# Altium footprint library SamacSys.PcbLib: 9 footprints
Each footprint in its own frame and in the unit in brackets; x right, y up, seen from the top. Pads: shape width x height; smd on the part's side, far side on the other; paste and mask are expansions set on the pad; w line width, h text height; cw(c..) or ccw(c..) is an arc to the next point about the centre after c.
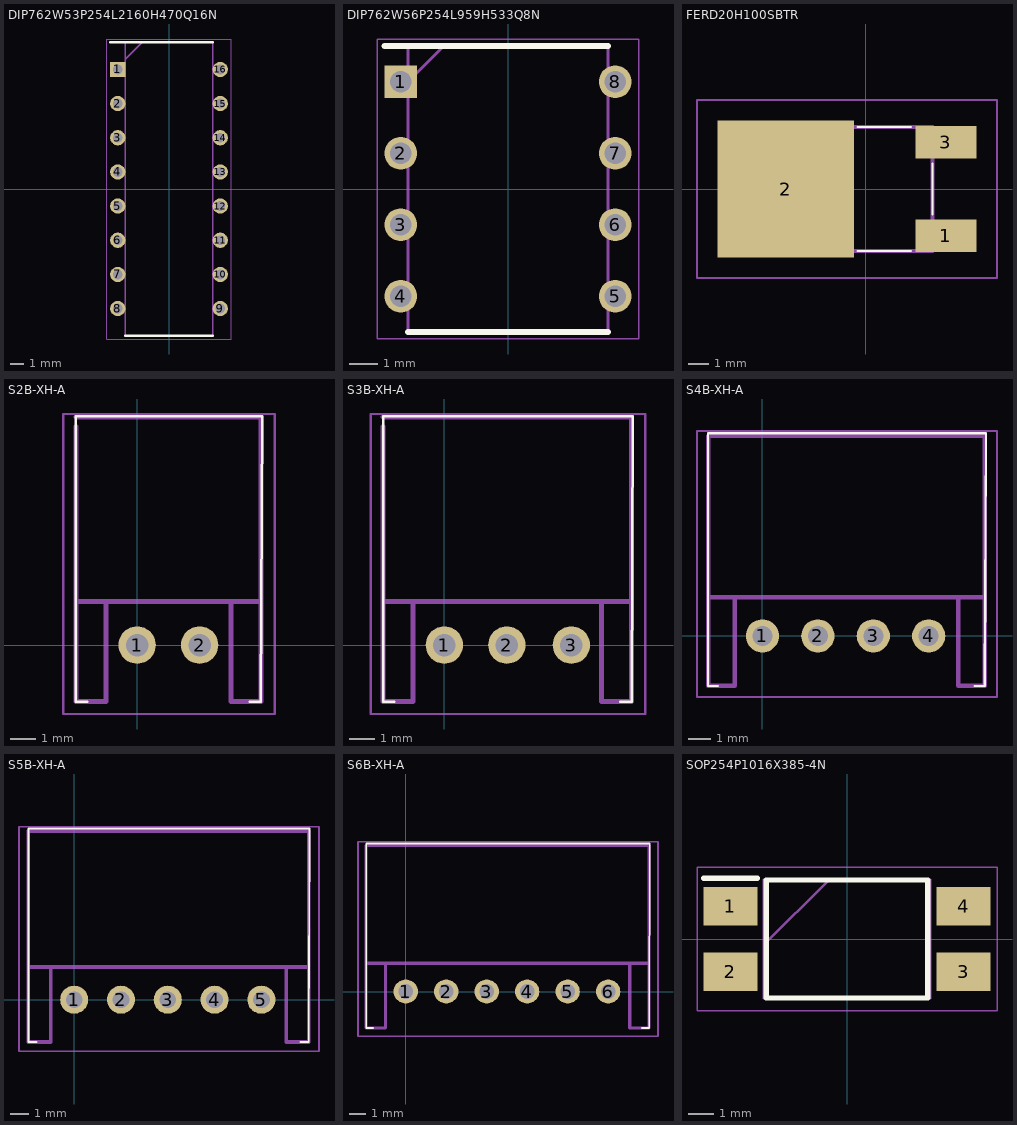
[diagram p0: the footprints below, top view; thin cyan lines are the x and y axes]

## DIP762W53P254L2160H470Q16N [mm]
pads (16):
  rect 1.13x1.13 hole 0.73: 1(-3.81,8.89)
  round 1.13 hole 0.73: 2(-3.81,6.35) 3(-3.81,3.81) 4(-3.81,1.27) 5(-3.81,-1.27) 6(-3.81,-3.81) 7(-3.81,-6.35) 8(-3.81,-8.89) 9(3.81,-8.89) 10(3.81,-6.35) 11(3.81,-3.81) 12(3.81,-1.27) 13(3.81,1.27) 14(3.81,3.81) 15(3.81,6.35) 16(3.81,8.89)
Top Overlay:
  lines w0.2: -4.375,10.9 3.24,10.9 ; -3.24,-10.9 3.24,-10.9
Mechanical 13:
  lines w0.1: -3.24,9.63 -1.97,10.9 ; -3.24,-10.9 -3.24,10.9 3.24,10.9 3.24,-10.9 -3.24,-10.9
Mechanical 15:
  lines w0.05: -4.625,-11.15 -4.625,11.15 4.625,11.15 4.625,-11.15 -4.625,-11.15
3D body "HEF4543BP.stp": height 4.7, standoff -3.5, extent -3.942,-10.8 3.942,10.8

## DIP762W56P254L959H533Q8N [mm]
pads (8):
  rect 1.16x1.16 hole 0.76: 1(-3.81,3.81)
  round 1.16 hole 0.76: 2(-3.81,1.27) 3(-3.81,-1.27) 4(-3.81,-3.81) 5(3.81,-3.81) 6(3.81,-1.27) 7(3.81,1.27) 8(3.81,3.81)
Top Overlay:
  lines w0.2: -4.39,5.08 3.555,5.08 ; -3.555,-5.08 3.555,-5.08
Mechanical 13:
  lines w0.1: -3.555,3.81 -2.285,5.08 ; -3.555,-5.08 -3.555,5.08 3.555,5.08 3.555,-5.08 -3.555,-5.08
Mechanical 15:
  lines w0.05: -4.64,-5.33 -4.64,5.33 4.64,5.33 4.64,-5.33 -4.64,-5.33
3D body "NE555N.stp": height 5.33, standoff -3.5, extent -3.95,-4.795 3.95,4.795

## FERD20H100SBTR [mm]
pads (3):
  rect 3x1.6 smd: 1(3.925,-2.286) 3(3.925,2.286)
  rect 6.7x6.7 smd: 2(-3.925,0)
Top Overlay:
  lines w0.1: -0.4,-3.047 2.2,-3.047 ; -0.4,3.047 2.2,3.047 ; 3.27,-1.25 3.27,1.25
Mechanical 13:
  lines w0.2: -3.27,-3.047 3.27,-3.047 3.27,3.047 -3.27,3.047 -3.27,-3.047
Mechanical 15:
  lines w0.1: -8.275,-4.35 6.425,-4.35 6.425,4.35 -8.275,4.35 -8.275,-4.35
3D body "TO252 Gehäuse.step": height 2.3, standoff -0.05, extent -4.985,-3.198 3.715,3.302

## S2B-XH-A [mm]
pads (2):
  round 1.5 hole 0.9: 1(0,0) 2(2.5,0)
Top Overlay:
  lines w0.1: -2,-2.257 -2.45,-2.257 -2.45,9.144 5.002,9.144 4.95,-2.257 4.5,-2.257
Mechanical 13:
  lines w0.2: -2.45,8.743 -2.45,1.743 ; -2.45,9.124 4.95,9.124 ; 4.95,9.017 4.95,1.743 ; -2.45,1.743 4.95,1.743 ; -2.45,1.743 -1.25,1.743 -1.25,-2.257 -2.45,-2.257 -2.45,1.743 ; 4.95,1.743 3.75,1.743 3.75,-2.257 4.95,-2.257 4.95,1.743
Mechanical 15:
  lines w0.1: -2.95,-2.757 5.5,-2.757 5.5,9.243 -2.95,9.243 -2.95,-2.757
3D body "S2B-XH-A(LF)(SN)--3DModel-STEP-56544.STEP": height 6.15, standoff -3.4, extent -2.413,-2.321 4.987,9.179

## S3B-XH-A [mm]
pads (3):
  round 1.5 hole 0.9: 1(0,0) 2(2.5,0) 3(5.08,0)
Top Overlay:
  lines w0.1: -2,-2.257 -2.45,-2.257 -2.45,9.144 7.542,9.144 7.49,-2.257 7.04,-2.257
Mechanical 13:
  lines w0.2: -2.45,8.743 -2.45,1.743 ; -2.45,9.124 7.442,9.119 ; 7.49,9.017 7.49,1.743 ; -2.45,1.743 -2.45,-2.257 -1.25,-2.257 -1.25,1.743 -2.45,1.743 ; -2.45,1.743 6.29,1.743 ; 6.29,1.743 6.29,-2.257 7.49,-2.257 7.49,1.743 ; 6.29,1.743 7.49,1.743
Mechanical 15:
  lines w0.1: -2.95,-2.757 -2.95,9.243 8.04,9.243 8.04,-2.757 -2.95,-2.757
3D body "S3B-XH-A.STEP": height 6.15, standoff -3.4, extent -2.436,-2.27 7.465,9.23

## S4B-XH-A [mm]
pads (4):
  round 1.5 hole 0.9: 1(0,0) 2(2.5,0) 3(5,0) 4(7.5,0)
Top Overlay:
  lines w0.1: -2,-2.257 -2.45,-2.257 -2.45,9.144 10.082,9.144 10.03,-2.257 9.58,-2.257
Mechanical 13:
  lines w0.2: -2.45,1.743 -2.45,-2.257 -1.25,-2.257 -1.25,1.743 -2.45,1.743 ; -2.45,1.743 -2.45,9.017 10.03,9.017 10.03,1.743 ; -2.45,1.743 8.83,1.743 ; 8.83,1.743 8.83,-2.257 10.03,-2.257 10.03,1.743 ; 8.83,1.743 10.03,1.743
Mechanical 15:
  lines w0.1: -2.95,-2.757 -2.95,9.243 10.58,9.243 10.58,-2.757 -2.95,-2.757
3D body "S4B-XH-A.STEP": height 6.15, standoff -3.4, extent -2.441,-2.321 9.959,9.179

## S5B-XH-A [mm]
pads (5):
  round 1.5 hole 0.9: 1(0,0) 2(2.5,0) 3(5,0) 4(7.5,0) 5(10,0)
Top Overlay:
  lines w0.1: -2,-2.257 -2.45,-2.257 -2.45,9.144 12.582,9.144 12.53,-2.257 12.08,-2.257
Mechanical 13:
  lines w0.2: -2.45,1.743 -2.45,-2.257 -1.25,-2.257 -1.25,1.743 -2.45,1.743 ; -2.45,1.743 -2.45,9.017 12.53,9.017 12.53,1.743 ; -2.45,1.743 11.33,1.743 ; 11.33,1.743 11.33,-2.257 12.53,-2.257 12.53,1.743 ; 11.33,1.743 12.53,1.743
Mechanical 15:
  lines w0.1: -2.95,-2.757 -2.95,9.243 13.08,9.243 13.08,-2.757 -2.95,-2.757
3D body "S5B-XH-A.STEP": height 6.15, standoff -3.4, extent -2.446,-2.296 12.454,9.204

## S6B-XH-A [mm]
pads (6):
  round 1.5 hole 0.9: 1(0,0) 2(2.5,0) 3(5,0) 4(7.5,0) 5(10,0) 6(12.5,0)
Top Overlay:
  lines w0.1: -2,-2.257 -2.45,-2.257 -2.45,9.144 15.082,9.144 15.03,-2.257 14.58,-2.257
Mechanical 13:
  lines w0.2: -2.45,1.743 13.83,1.743 ; -2.45,1.743 -2.45,9.017 15.03,9.017 15.03,1.743 ; -2.45,1.743 -1.25,1.743 -1.25,-2.257 -2.45,-2.257 -2.45,1.743 ; 13.83,1.743 15.03,1.743 ; 13.83,1.743 13.83,-2.257 15.03,-2.257 15.03,1.743
Mechanical 15:
  lines w0.1: -2.95,-2.757 15.58,-2.757 15.58,9.243 -2.95,9.243 -2.95,-2.757
3D body "S6B-XH-A.STEP": height 6.15, standoff -3.4, extent -2.452,-2.296 14.948,9.204

## SOP254P1016X385-4N [mm]
pads (4):
  rect 2.1x1.5 smd: 1(-4.55,1.27) 2(-4.55,-1.27) 3(4.55,-1.27) 4(4.55,1.27)
Top Overlay:
  lines w0.2: -5.6,2.37 -3.5,2.37 ; -3.15,-2.3 -3.15,2.3 3.15,2.3 3.15,-2.3 -3.15,-2.3
Mechanical 13:
  lines w0.1: -3.25,-0.24 -0.71,2.3 ; -3.25,-2.3 -3.25,2.3 3.25,2.3 3.25,-2.3 -3.25,-2.3
Mechanical 15:
  lines w0.05: -5.85,-2.8 -5.85,2.8 5.85,2.8 5.85,-2.8 -5.85,-2.8
3D body "SO4.stp": height 2.21, standoff 0.01, extent -3.53,-1.397 3.479,1.443